# EAGLE library part IRF7530-8MSOP (library IRF7530(8MSOP))
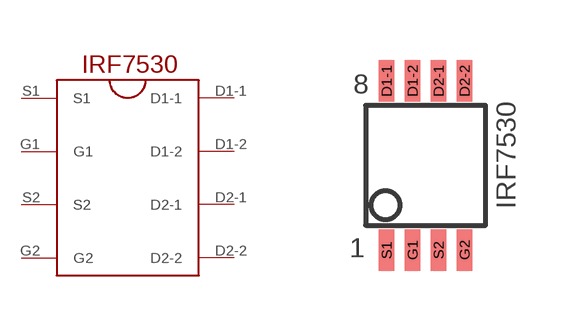
[diagram p0: symbol with the pads of IRF7530-8MSOP; footprint IRF7530-8MSOP]

Designator prefix -

## IRF7530-8MSOP  [IRF7530-8MSOP]
D1-1  D1-1
D1-2  D1-2
D2-1  D2-1
D2-2  D2-2
G1  G1
G2  G2
S1  S1
S2  S2

## Footprint IRF7530-8MSOP (pad centres in mm)
smd 0.38 x 1.04: D1-1 -0.975,2.12; D1-2 -0.325,2.12; D2-1 0.325,2.12; D2-2 0.975,2.12; G1 -0.325,-2.12; G2 0.975,-2.12; S1 -0.975,-2.12; S2 0.325,-2.12